# Altium schematic symbol library 462070012.SchLib: 1 symbol
Pins are listed as number, name and electrical type; pins without a type are passive.

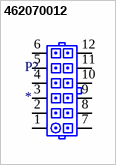
[diagram p0: symbol 462070012]

## 462070012
designator P?
=Description; Manufacturer: *; Part Number: *; Number of Positions: *; Number of Rows: *; Current Rating: *; ComponentLink1Description: Datasheet; Voltage Rating: *; Fastening Type: *; Orientation: *; Gender: *; Max Operating Temperature: *; Min Operating Temperature: *
footprint MOLEX_462070012
pins: 1, 2, 3, 4, 5, 6, 7, 8, 9, 10, 11, 12